# EAGLE library part SCHRAUBKLEMME-6POL (library 1A-meinLib)
Schraubklemme, WKB-01-06 AWP-M, T&B/Wire-Kon, nummerierte Kontakte, 125VAC/13A Lieferant:Schuricht, 14 00 68
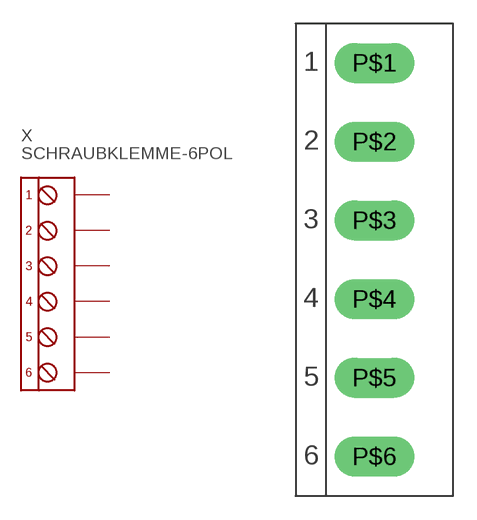
[diagram p60: symbol with the pads of SCHRAUBKLEMME-6POL; footprint SCHRAUBKLEMME-6POL]

Designator prefix X

## SCHRAUBKLEMME-6POL  [SCHRAUBKLEMME-6POL]
P$1  1
P$2  2
P$3  3
P$4  4
P$5  5
P$6  6

## Footprint SCHRAUBKLEMME-6POL (pad centres in mm)
Schraubklemme, WKB-01-06 AWP-M, T&B/Wire-Kon, nummerierte Kontakte, 125VAC/13A Lieferant:Schuricht, 14 00 68
drill 1 pad 2.54 long: P$1 0,10; P$2 0,5; P$3 0,0; P$4 0,-5; P$5 0,-10; P$6 0,-15